# EAGLE library part ESP8266_MODULE (library Dal_V2)
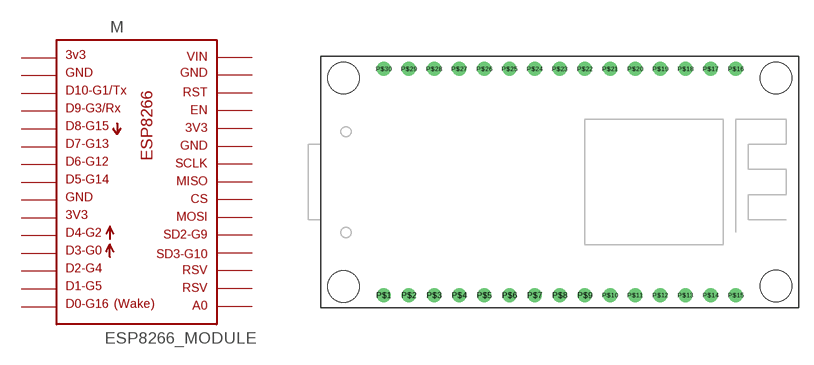
[diagram p24: symbol with the pads of ESP8266_MODULE; footprint ESP8266_MODULE]

Designator prefix M

## ESP8266_MODULE  [ESP8266_MODULE]
P$1  P$1  pas
P$2  P$2  pas
P$3  P$3  pas
P$4  P$4  pas
P$5  P$5  pas
P$6  P$6  pas
P$7  P$7  pas
P$8  P$8  pas
P$9  P$9  pas
P$10  P$10  pas
P$11  P$11  pas
P$12  P$12  pas
P$13  P$13  pas
P$14  P$14  pas
P$15  P$15  pas
P$16  P$16  pas
P$17  P$17  pas
P$18  P$18  pas
P$19  P$19  pas
P$20  P$20  pas
P$21  P$21  pas
P$22  P$22  pas
P$23  P$23  pas
P$24  P$24  pas
P$25  P$25  pas
P$26  P$26  pas
P$27  P$27  pas
P$28  P$28  pas
P$29  P$29  pas
P$30  P$30  pas

## Footprint ESP8266_MODULE (pad centres in mm)
drill 0.9: P$1 0,0; P$2 2.54,0; P$3 5.08,0; P$4 7.62,0; P$5 10.16,0; P$6 12.7,0; P$7 15.24,0; P$8 17.78,0; P$9 20.32,0; P$10 22.86,0; P$11 25.4,0; P$12 27.94,0; P$13 30.48,0; P$14 33.02,0; P$15 35.56,0; P$16 35.56,22.86; P$17 33.02,22.86; P$18 30.48,22.86; P$19 27.94,22.86; P$20 25.4,22.86; P$21 22.86,22.86; P$22 20.32,22.86; P$23 17.78,22.86; P$24 15.24,22.86; P$25 12.7,22.86; P$26 10.16,22.86; P$27 7.62,22.86; P$28 5.08,22.86; P$29 2.54,22.86; P$30 0,22.86
hole 3.175 at -4.064,21.946
hole 3.175 at -4.064,0.889
hole 3.175 at 39.624,21.946
hole 3.175 at 39.624,0.914